# EAGLE library part 557786-1 (library con-amp)
AMP connector
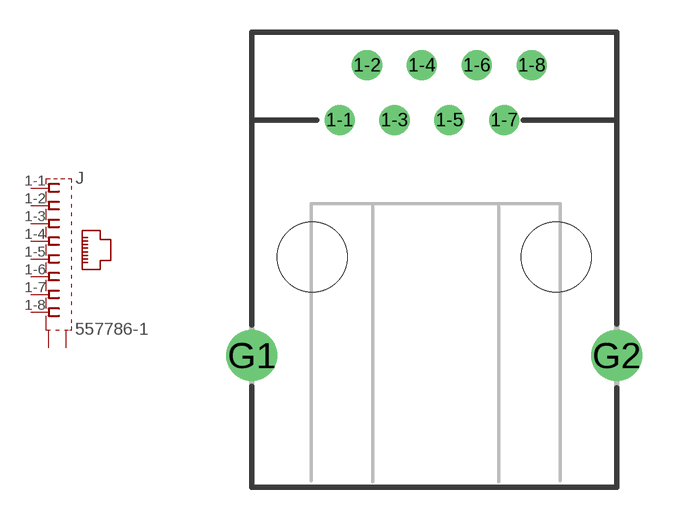
[diagram p66: symbol with the pads of 557786-1; footprint 557786-1]

Designator prefix J

## 557786-1 (MF: TYCO ELECTRONICS; MPN: 5557786-1; OC_FARNELL: 1777355; OC_NEWARK: 42K8769)  [557786-1]
1-1  1  pas
1-2  2  pas
1-3  3  pas
1-4  4  pas
1-5  5  pas
1-6  6  pas
1-7  7  pas
1-8  8  pas
G1  S2  pas
G2  S1  pas

## Footprint 557786-1 (pad centres in mm)
Modular Jack Shielded
drill 0.889 round: 1-1 -4.445,6.35; 1-2 -3.175,8.89; 1-3 -1.905,6.35; 1-4 -0.635,8.89; 1-5 0.635,6.35; 1-6 1.905,8.89; 1-7 3.175,6.35; 1-8 4.445,8.89
drill 1.575 pad 2.184 round: G1 -8.509,-4.572; G2 8.382,-4.572
hole 3.251 at -5.715,0
hole 3.251 at 5.588,0